# EAGLE library part DB-9_FCI (library thecustomgeek)
Part D09S13A4GL00LF from FCI. Right angle, through hole DB9 connector.
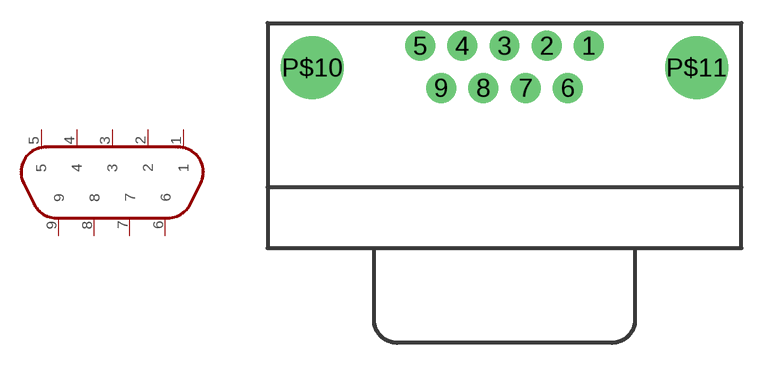
[diagram p2: symbol with the pads of DB-9_FCI; footprint DB-9_FCI]

Designator prefix -

## DB-9_FCI  [DB-9_FCI]
1  1
2  2
3  3
4  4
5  5
6  6
7  7
8  8
9  9

## Footprint DB-9_FCI (pad centres in mm)
drill 1.3: 1 5.48,5.55; 2 2.74,5.55; 3 0,5.55; 4 -2.74,5.55; 5 -5.48,5.55; 6 4.11,2.81; 7 1.37,2.81; 8 -1.37,2.81; 9 -4.11,2.81
drill 3.1: P$10 -12.495,4.13; P$11 12.495,4.13